# Altium schematic symbol library master-010106.SCHLIB: 123 symbols (part 2 of 3)
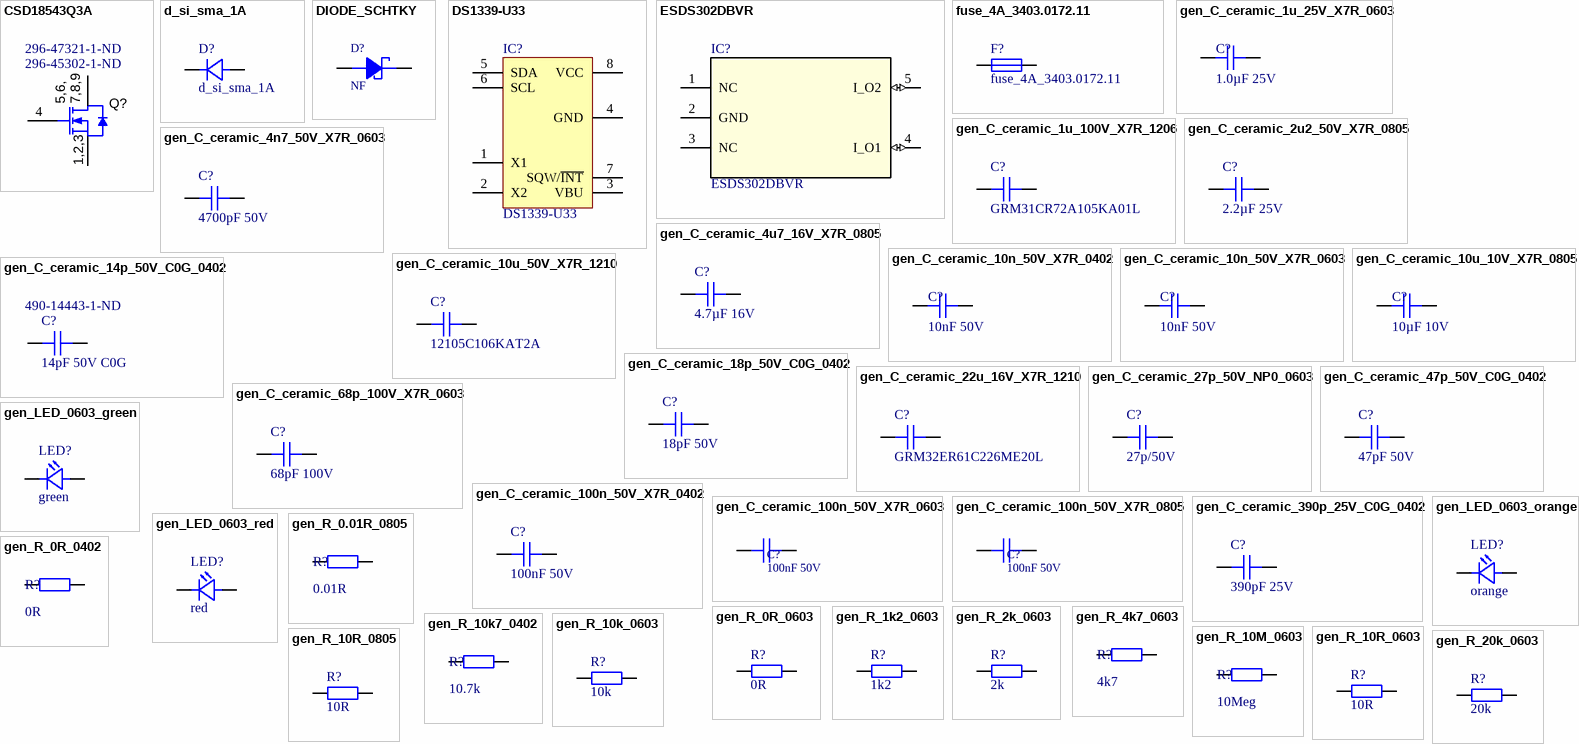
[diagram p4: symbols CSD18543Q3A to gen_R_20k_0603]

## CSD18543Q3A
designator Q?  Supplier Part Number 1: 296-45302-1-ND  Supplier Part Number 2: 296-47321-1-ND  (hidden comment: CSD18543Q3A)
60V, N ch NexFET MOSFET™, single SON3x3, 9.9mOhm; Manufacturer: Texas Instruments; Alternate Manufacturer: None; CompType: MOSFET; Value: 30V; U/M: EA; VdsMax_V: 60; Value1: 0.0081 ohm; Rdson45_Ohm: 0.0081; Value2: 1.7 nC; QgTyp_nC: 1.7; Vgs_V: 10; IdsMax_A: 156; SymbolVersion: 2008-07-09; PartNumber: CSD18543Q3A; PackageReference: SON 3.3x3.3mm; ChType: N; RoHS: Y; MountType: SMT; Published: 2008-06-19; Publisher: Texas Instruments; LatestRevisionDate: 2013-07-24; LatestRevisionNote: Added parts.; ComponentLink1Description: Datasheet link; ComponentLink1URL: http://www.ti.com/lit/ds/symlink/csd18543q3a.pdf; Supplier 1: Digi-Key; Supplier 2: Digi-Key
simulation model CSD17308Q3
footprint SONQ3A (NexFET MOSFET™, single SON3x3)
footprint SONQ3A_NV (NexFET MOSFET™, single SON3x3, No Via)
pins: 1 S, 2 S, 3 S, 4 G, 5 D, 6 D, 7 D, 8 D, 9 D
text: 5,6,; 7,8,9; 1,2,3

## d_si_sma_1A
designator D?
Standard Recovery Diode, 100 V, 1 A, Single, 1 V, 2 µs, 30 A; Part Name: GF1B; Manufacturer: ON Semiconductor; Breakdown Voltage: 100V; Continuous Forward Current: 1A; Automotive Qualified: False; Part Number: d_si_sma_1A; Operating Temperature: -65°C - +175°C; ComponentLink1Description: Datasheet; ComponentLink1URL: http://www.farnell.com/datasheets/2303965.pdf; Supplier 1: Farnell; Supplier Part Number 1: 1467477
footprint DIOM4326X24N (Molded Diode, 2-Leads, Body 4,30x2,60mm, IPC Medium Density, SMA, DO-214AC)
footprint DIOM4326X24L (Footprint not found)
footprint DIOM4326X24M
pins: 1 K, 2 A

## DIODE_SCHTKY
designator D?, comment NF
'''BAT41 Schottky diode, small signal''' / - If(avg) = 200mA, Vf(max) = 1V@200mA / - Vr(max) = 100V, Ir = 100nA@50V, 25deg / - SOD-523 package, RoHS compliant; DBDesc: do not populate, RoHS compliant; ID: 908; Preffered ID: 20995
footprint NF_SOD-523 (Footprint not found)
pins: 1 A, 2 C

## DS1339-U33
designator IC?
DBDesc: DS1339U-33+ RTC I2C w/alarm USOP-8, RoHS compliant; ID: 11376; Part Number: DS1339-U33
footprint USOP-8
pins: 1 X1, 2 X2, 3 VBU, 4 GND, 5 SDA, 6 SCL, 7 SQW/~{INT}, 8 VCC

## ESDS302DBVR
designator IC?
Imported; Manufacturer: Texas Instruments; PartNumber: ESDS302DBVR; RefDes: RefDes; TYPE: TYPE; Value: Value; Part Number: ESDS302DBVR
footprint DBV0005A_N
pins: 1 NC, 2 GND (power), 3 NC, 4 I_O1 (io), 5 I_O2 (io)

## fuse_4A_3403.0172.11
designator F?
Schurter SMD Fuse 4.0A UMT 3403.0172.11; Automotive Qualified: False; Part Number: fuse_4A_3403.0172.11; Manufacturer: Schurter; Operating Temperature: -55°C - +125°C; ComponentLink1Description: Catalog Page Digikey; ComponentLink1URL: http://dkc3.digikey.com/PDF/DE2011-DE/P2352.pdf; Supplier 1: Digikey; Supplier Part Number 1: 486-1253-ND; Supplier 2: Mouser; Supplier Part Number 2: 693-3403.0172.11
footprint Schurter_UMT_250 (Schurter UMT 250 Series Fuse)
pins: 1, 2
1 alternate drawing of the same symbol

## gen_C_ceramic_1u_25V_X7R_0603
designator C?, comment 1.0µF 25V
Ceramic, 1.0µF, ±10%, 25V, X7R, –55 to 125°C, 0603 (1608),RoHS, Automotive; Part Number: GCJ188R71E105KA01; Manufacturer: Murata; Case EIA: 0603; Case Metric: 1608; Capacitance: 1µF; Automotive Qualified: True; PnP Package: C_0603_10; PnP Value: 1.0µF/25V/X7R; Dielectric: X7R; Rated Voltage: 25V; Height - Seated (Max): 0.8mm; Mounting Type: SurfaceMount,MLCC; Operating Temperature: –55 to 125°C; Series: GCJ; Tolerance: ±10%; Manufacturer_Part_Number: GCJ188R71E105KA01; Supplier 1: Digi-Key; Supplier Part Number 1: 490-14409-1-ND
footprint 0603C
signal-integrity model Cap
simulation model CAPACITOR
pins: 1, 2

## gen_C_ceramic_1u_100V_X7R_1206
designator C?, comment GRM31CR72A105KA01L
Ceramic, 1 uF, +/- 10%, 100 V, -55 to 125 degC, 1206 (3216 Metric), RoHS, Tape and Reel; Manufacturer: Murata; Catalog Drawings: GRMSeries_1206_1.6; Featured Product: GA3SafetyRecognizedCapsandHi-CapMLCC; Online Catalog: GRMSeries; Temperature Coefficient: X7R; Product Training Modules: High-CapMultilayerCeramicCapacitors; Other Names: 490-3909-6; Voltage - Rated: 100V; Case EIA: 1206; Case Metric: 3216; PnP Package: C_1206_10; PnP Value: 1.0µF/100V/X7R; Capacitance: 1µF; Height - Seated (Max): -; Features: -; Applications: GeneralPurpose; Manufacturer URL: http://www.murata.com/; Standard Package: 1; Package Reference: 1206; Series: GCJ; Package / Case: 1206(3216Metric); Datasheet Version: Sep-11; Ratings: -; Category: Capacitors; Datasheet URL: https://datasheet.ciiva.com/29199/454987-da-01-en-vs-kondensator-1206-29199435.pdf; Operating Temperature: –55 to 125°C; Lead Spacing: -; Family: CeramicCapacitors; Tolerance: ±10%; Packaging: Digi-Reel; Mounting Type: SurfaceMount,MLCC; Package Description: 2-Pin Surface Mount Device, Body 3.2 x 1.6 mm; Lead Style: -; Thickness (Max): 0.071"(1.80mm); Size / Dimension: 0.126"Lx0.063"W(3.20mmx1.60mm); Dielectric: X7R; Rated Voltage: 100V; Manufacturer 1: Murata; Manufacturer Part Number 1: GRM31CR72A105KA01L
footprint CAPC3216X180X55ML20T25 (Chip Capacitor, 2-Leads, Body 3.4x1.8mm, IPC Low Density)
footprint CAPC3216X180X55NL20T25 (Chip Capacitor, 2-Leads, Body 3.4x1.8mm, IPC Medium Density)
footprint CAPC3216X180X55LL20T25 (Chip Capacitor, 2-Leads, Body 3.4x1.8mm, IPC High Density)
signal-integrity model Cap
simulation model CAPACITOR
pins: 1, 2

## gen_C_ceramic_2u2_50V_X7R_0805
designator C?, comment 2.2µF 25V
Ceramic, 2.2µF, ±10%, 25V, X7R, –55 to 125°C, 0805 (2012),RoHS, Automotive; Part Number: GCJ21BR71E225KA01; Manufacturer: Murata; Capacitance: 2u2; Case EIA: 0805; Case Metric: 2012; Automotive Qualified: True; PnP Package: C_0805_10; PnP Value: 2.2µF/25V/X7R; Rated Voltage: 25V; Dielectric: X7R; Height - Seated (Max): 1.25mm; Mounting Type: SurfaceMount,MLCC; Operating Temperature: –55 to 125°C; Series: GCJ; Tolerance: ±10%; Manufacturer_Part_Number: GCJ21BR71E225KA01
footprint CAPC2012X14N (Chip Capacitor, 2-Leads, Body 2,00x1,25mm, IPC Medium Density)
footprint CAPC2012X14L
footprint CAPC2012X14M
footprint 0805C
signal-integrity model Cap
simulation model CAPACITOR
pins: 1, 2

## gen_C_ceramic_4n7_50V_X7R_0603
designator C?, comment 4700pF 50V
Ceramic, 4700pF,±5%, 50V, C0G, 25 to 125°C, 0603 (2012); Part Number: GRT1885C1H472JA02; Capacitance: 4700p; Case EIA: 0603; Case Metric: 1608; PnP Package: C_0603_05; Automotive Qualified: True; Rated Voltage: 50V; Dielectric: C0G
footprint CAPC1608X08N (Chip Capacitor, 2-Leads, Body 1,60x0,80mm, IPC Medium Density)
footprint CAPC1608X08L
footprint CAPC1608X08M
footprint 0603C
signal-integrity model Cap
simulation model CAPACITOR
pins: 1, 2

## gen_C_ceramic_4u7_16V_X7R_0805
designator C?, comment 4.7µF 16V
Ceramic, 4.7µF, ±10%, 16V, X7R, –55 to 125°C, 0805 (2012),RoHS, Automotive; Part Number: GCJ21BR71C475KA01; Manufacturer: Murata; Capacitance: 4u7; Case EIA: 0805; Case Metric: 2012; AVT Set: x; Automotive Qualified: True; PnP Package: C_0805_10; PnP Value: 4.7µF/16V/X7R; Rated Voltage: 16V; Dielectric: X7R; Supplier 1: Digi-Key; Supplier Part Number 1: 490-10557-1-ND; Height - Seated (Max): 1.25mm; Mounting Type: SurfaceMount,MLCC; Operating Temperature: –55 to 125°C; Series: GCJ; Tolerance: ±10%; Manufacturer_Part_Number: GCJ21BR71C475KA01
footprint CAPC2012X14L
footprint CAPC2012X14M
footprint CAPC2012X14N (Chip Capacitor, 2-Leads, Body 2,00x1,25mm, IPC Medium Density)
footprint 0805C
signal-integrity model Cap
simulation model CAPACITOR
pins: 1, 2

## gen_C_ceramic_10n_50V_X7R_0402
designator C?, comment 10nF 50V
Ceramic, 10nF, ±10%, 50V, X7R, –55 to 125°C, 0402 (1005),RoHS, Automotive; Part Number: GRT155R71H104KE01; Automotive Qualified: True; Capacitance: 10n; Case EIA: 0402; Case Metric: 1005; PnP Package: C_0402_10; PnP Value: 10n/50V/X7R; Dielectric: X7R; Rated Voltage: 50V
footprint 0402C (Chip Capacitor, 2-Leads, Body 1.0x0.5mm, IPC Medium Density)
signal-integrity model Cap
simulation model CAPACITOR
pins: 1, 2

## gen_C_ceramic_10n_50V_X7R_0603
designator C?, comment 10nF 50V
Ceramic, 10nF, ±10%, 50V, X7R, –55 to 125°C, 0603 (1608),RoHS, Automotive; Part Number: GCJ188R71H102KA01; Manufacturer: Murata; Case EIA: 0603; Case Metric: 1608; Capacitance: 10n; Automotive Qualified: True; PnP Package: C_0603_10; PnP Value: 10nF/50V/X7R; Dielectric: X7R; Rated Voltage: 50V; Height - Seated (Max): 0.8mm; Mounting Type: SurfaceMount,MLCC; Operating Temperature: –55 to 125°C; Series: GCJ; Tolerance: ±10%; Manufacturer_Part_Number: GCJ188R71H102KA01; Supplier 1: Digi-Key; Supplier Part Number 1: 490-5768-1-ND
footprint 0603C
signal-integrity model Cap
simulation model CAPACITOR
pins: 1, 2

## gen_C_ceramic_10u_10V_X7R_0805
designator C?, comment 10µF 10V
Ceramic, 10µF, ±10%, 10V, X7R, –55 to 125°C, 0805 (2012),RoHS, Automotive; Part Number: GCJ21BR71A106KE01; Manufacturer: Murata; Case EIA: 0805; Case Metric: 2012; Automotive Qualified: True; PnP Package: C_0805_10; PnP Value: 10µF/10V/X7R; Capacitance: 10µF; Dielectric: X7R; Rated Voltage: 10V; Height - Seated (Max): 1.25mm; Mounting Type: SurfaceMount,MLCC; Operating Temperature: –55 to 125°C; Series: GCJ; Tolerance: ±10%; Manufacturer_Part_Number: GCJ21BR71A106KE01; Supplier 1: Digi-Key; Supplier Part Number 1: 490-12646-1-ND
footprint 0805C
footprint CAPC2012X14N (Chip Capacitor, 2-Leads, Body 2,00x1,25mm, IPC Medium Density)
signal-integrity model Cap
simulation model CAPACITOR
pins: 1, 2

## gen_C_ceramic_10u_50V_X7R_1210
designator C?, comment 12105C106KAT2A
Ceramic, 10uF, 50 V, -55 to 125 degC, 2-Pin SMD (1210), RoHS, Tape and Reel; Manufacturer: AVX; Manufacturer 1: Kyocera AVX; Dielectric: X7R; Tolerance: ±10%; Load Life: 1000h; Type: CommercialSurfaceMountChip; Voltage Rating: 50V; Temperature Coefficient / Code: +/-15%; Case EIA: 1210; Case Metric: 3225; PnP Package: C_1210_10; PnP Value: 10µF/25V/X7R; Rated Voltage: 25V; Maximum Operating Temperature: +125C; Mounting Technology: SurfaceMount; Case Code - in: 1210; Package Description: 2-Pin Surface Mount Device, Body 3.2 x 2.5 mm; Datasheet URL: http://www.farnell.com/datasheets/1818074.pdf; Case Code - mm: 3225; Package / Case: 1210(3225metric); Product: GeneralTypeMLCCs; Capacitance: 10uF; Product Category: MultilayerCeramicCapacitorsMLCC-SMD/SMT; Minimum Operating Temperature: -55C; Manufacturer URL: http://www.avx.com/; Operating Temperature Range: -55Cto+125C; Termination Style: SMD/SMT; Factory Pack Quantity: 1000; RoHS: Details; Brand: AVX; Datasheet Version: 03/2014; Package Reference: 1210; Packaging: Reel; Voltage Rating DC: 50V; Height - Seated (Max): 2.5mm; Mounting Type: SurfaceMount,MLCC; Operating Temperature: –55 to 125°C; Series: GCM; Manufacturer Part Number 1: 12105C106KAT2A
footprint CAPC3225X279X50LL20T25 (Chip Capacitor, 2-Leads, Body 3.40x2.70mm, IPC High Density)
footprint CAPC3225X279X50ML20T25 (Chip Capacitor, 2-Leads, Body 3.40x2.70mm, IPC Low Density)
footprint CAPC3225X279X50NL20T25 (Chip Capacitor, 2-Leads, Body 3.40x2.70mm, IPC Medium Density)
signal-integrity model Cap
simulation model CAPACITOR
pins: 1, 2

## gen_C_ceramic_14p_50V_C0G_0402
designator C?, comment 14pF 50V C0G  Supplier Part Number 1: 490-14443-1-ND
CAP CER 14PF 50V C0G/NP0 0402; Manufacturer: Murata; Manufacturer Part Number: GJM1555C1H140GB01D; Capacitance: 14p; Case EIA: 0402; Case Metric: 1005; Automotive Qualified: True; PnP Package: C_0402_10; PnP Value: 18pF/50V/C0G; Tolerance: ±5%; Rated Voltage: 50V; Dielectric: C0G; Height - Seated (Max): 0.5mm; Mounting Type: SurfaceMount,MLCC; Operating Temperature: 25 to 125°C; Supplier 1: Digi-Key; RoHS: No; Category: Ceramic Capacitors; Stock 1: 24524; Pricing 1: 1=0.24000, 10=0.16500, 100=0.08360, 500=0.05722, 1000=0.05063, 2500=0.04842, 5000=0.04402 (USD); Voltage Rating (DC): 50V; Length: 1mm; Width: 500um; Thickness: 500um; ComponentLink1URL: https://search.murata.co.jp/Ceramy/image/img/A01X/G101/ENG/GJM1555C1H140GB01-01.pdf?src-supplier=Digi-Key; ComponentLink1Description: https://search.murata.co.jp/Ceramy/image/img/A01X/G101/ENG/GJM1555C1H140GB01-01.pdf?src-supplier=Digi-Key; ComponentLink2URL: http://search.murata.co.jp/Ceramy/image/img/A01X/G101/ENG/GJM1555C1H140GB01-01.pdf?src-supplier=Digi-Key; ComponentLink2Description: http://search.murata.co.jp/Ceramy/image/img/A01X/G101/ENG/GJM1555C1H140GB01-01.pdf?src-supplier=Digi-Key
footprint 0402C (Chip Capacitor, 2-Leads, Body 1.0x0.5mm, IPC Medium Density)
signal-integrity model Cap
simulation model CAPACITOR
pins: 1, 2

## gen_C_ceramic_18p_50V_C0G_0402
designator C?, comment 18pF 50V
Ceramic, 18pF, ±5%, 50V, C0G, 25 to 125°C, 0402 (1005),RoHS, Automotive; Part Number: GCM1555C1H180JA16#; Manufacturer: Murata; Capacitance: 18p; Case EIA: 0402; Case Metric: 1005; Automotive Qualified: True; PnP Package: C_0402_10; PnP Value: 18pF/50V/X7R; Rated Voltage: 50V; Dielectric: C0G; Supplier 1: Digi-Key; Supplier Part Number 1: 490-12650-1-ND; Height - Seated (Max): 0.5mm; Mounting Type: SurfaceMount,MLCC; Operating Temperature: 25 to 125°C; Series: GCM; Tolerance: ±5%; Manufacturer_Part_Number: GCM1555C1H180JA16#
footprint 0402C (Chip Capacitor, 2-Leads, Body 1.0x0.5mm, IPC Medium Density)
signal-integrity model Cap
simulation model CAPACITOR
pins: 1, 2

## gen_C_ceramic_22u_16V_X7R_1210
designator C?, comment GRM32ER61C226ME20L
Ceramic, 22uF, 16 V, -55 to 125 degC, 2-Pin SMD (1210), RoHS, Tape and Reel; Manufacturer: AVX; Manufacturer 1: Kyocera AVX; Manufacturer Part Number 1: 12105C106KAT2A; Dielectric: X7R; Tolerance: ±10%; Capacitance: 10uF; Load Life: 1000h; Type: CommercialSurfaceMountChip; Voltage Rating: 50V; Temperature Coefficient / Code: +/-15%; Case EIA: 1210; Case Metric: 3225; PnP Package: C_1210_10; PnP Value: 22µF/16V/X7R; Rated Voltage: 16V; Maximum Operating Temperature: +125C; Mounting Technology: SurfaceMount; Case Code - in: 1210; Package Description: 2-Pin Surface Mount Device, Body 3.2 x 2.5 mm; Datasheet URL: http://www.farnell.com/datasheets/1818074.pdf; Case Code - mm: 3225; Package / Case: 1210(3225metric); Product: GeneralTypeMLCCs; Product Category: MultilayerCeramicCapacitorsMLCC-SMD/SMT; Minimum Operating Temperature: -55C; Manufacturer URL: http://www.avx.com/; Operating Temperature Range: -55Cto+125C; Termination Style: SMD/SMT; Factory Pack Quantity: 1000; RoHS: Details; Brand: AVX; Datasheet Version: 03/2014; Package Reference: 1210; Packaging: Reel; Voltage Rating DC: 50V; Height - Seated (Max): 2.5mm; Mounting Type: SurfaceMount,MLCC; Operating Temperature: –55 to 125°C; Series: GCM
footprint CAPC3225X279X50LL20T25 (Chip Capacitor, 2-Leads, Body 3.40x2.70mm, IPC High Density)
footprint CAPC3225X279X50ML20T25 (Chip Capacitor, 2-Leads, Body 3.40x2.70mm, IPC Low Density)
footprint CAPC3225X279X50NL20T25 (Chip Capacitor, 2-Leads, Body 3.40x2.70mm, IPC Medium Density)
signal-integrity model Cap
simulation model CAPACITOR
footprint 1210C (Footprint not found)
pins: 1, 2

## gen_C_ceramic_27p_50V_NP0_0603
designator C?, comment 27p/50V
MLCC; Part Number: gen_C_ceramic_27p_50V_NP0_0603; Capacitance: 27p; Rated Voltage: 50V; Dielectric: NP0; Case EIA: 0603; Case Metric: 1608; PnP Package: C_0603_05; Automotive Qualified: True; Supplier 1: Farnell; Supplier Part Number 1: 2219430; PnP Value: *
footprint 0603C
pins: 1, 2

## gen_C_ceramic_47p_50V_C0G_0402
designator C?, comment 47pF 50V
Ceramic, 47pF, ±5%, 50V, C0G, 25 to 125°C, 0402 (1005),RoHS, Automotive; Part Number: GCM1555C1H470JA16#; Manufacturer: Murata; Capacitance: 47; Case EIA: 0402; Case Metric: 1005; Automotive Qualified: True; PnP Package: C_0402_10; PnP Value: 47pF/50V/X7R; Rated Voltage: 50V; Dielectric: C0G; Supplier 1: Digi-Key; Supplier Part Number 1: 490-10670-1-ND; Height - Seated (Max): 0.5mm; Mounting Type: SurfaceMount,MLCC; Operating Temperature: -55 to 125°C; Series: GCM; Tolerance: ±5%; Manufacturer_Part_Number: GCM1555C1H470JA16#
footprint 0402C (Chip Capacitor, 2-Leads, Body 1.0x0.5mm, IPC Medium Density)
signal-integrity model Cap
simulation model CAPACITOR
pins: 1, 2

## gen_C_ceramic_68p_100V_X7R_0603
designator C?, comment 68pF 100V
Ceramic, 68pF, ±5%, 100V, X7R, 25 to 125°C, 0603 (1608),RoHS, Automotive; Part Number: GCM1885C2A680JA16; Manufacturer: Murata; Capacitance: 68p; Case EIA: 0603; Case Metric: 1608; PnP Package: C_0603_05; Automotive Qualified: True; PnP Value: 68pF/100V/X7R; Rated Voltage: 100V; Dielectric: X7R; Supplier 1: Digi-Key; Supplier Part Number 1: 490-4945-1-ND; Height - Seated (Max): 0.8mm; Mounting Type: SurfaceMount,MLCC; Operating Temperature: 25 to 125°C; Series: GCM; Tolerance: ±5%; Manufacturer_Part_Number: GCM1885C2A680JA16
footprint 0603C
footprint 0402C (Chip Capacitor, 2-Leads, Body 1.0x0.5mm, IPC Medium Density)
signal-integrity model Cap
simulation model CAPACITOR
pins: 1, 2

## gen_C_ceramic_100n_50V_X7R_0402
designator C?, comment 100nF 50V
Ceramic, 100nF, ±10%, 50V, X7R, –55 to 125°C, 0402 (1005),RoHS, Automotive; Part Number: GCM155R71H104KE02; Manufacturer: Murata; Capacitance: 100n; Case EIA: 0402; Case Metric: 1005; PnP Package: C_0402_10; PnP Value: 100nF/50V/X7R; PnP equipped: x; Automotive Qualified: True; Rated Voltage: 50V; Dielectric: X7R; Supplier 1: Digi-Key; Supplier Part Number 1: 490-10672-1-ND; Height - Seated (Max): 0.5mm; Mounting Type: SurfaceMount,MLCC; Operating Temperature: –55 to 125°C; Series: GCM; Tolerance: ±10%; Manufacturer_Part_Number: GCM155R71H104KE02
footprint 0402C (Chip Capacitor, 2-Leads, Body 1.0x0.5mm, IPC Medium Density)
signal-integrity model Cap
simulation model CAPACITOR
pins: 1, 2

## gen_C_ceramic_100n_50V_X7R_0603
designator C?, comment 100nF 50V
Ceramic, 100nF, ±10%, 50V, X7R, –55 to 125°C, 0603 (1608),RoHS, Automotive; Part Number: GCJ188R71H104KA12; Manufacturer: Murata; Capacitance: 100n; Case EIA: 0603; Case Metric: 1608; Automotive Qualified: True; PnP Package: C_0603_10; PnP Value: 100nF/50V/X7R; Dielectric: X7R; Rated Voltage: 50V; Height - Seated (Max): 0.8mm; Mounting Type: SurfaceMount,MLCC; Operating Temperature: –55 to 125°C; Series: GCJ; Tolerance: ±10%; Manufacturer_Part_Number: GCJ188R71H104KA12; Supplier 1: Digi-Key; Supplier Part Number 1: 490-5798-1-ND
footprint 0603C
signal-integrity model Cap
simulation model CAPACITOR
pins: 1, 2

## gen_C_ceramic_100n_50V_X7R_0805
designator C?, comment 100nF 50V
Ceramic, 100nF, ±20%, 50V, X7R, –55 to 125°C, 0805 (2012),RoHS, Automotive; Part Number: GCJ188R71H104KA12; Manufacturer: Murata; Capacitance: 100n; Case EIA: 0603; Case Metric: 1608; Automotive Qualified: True; PnP Package: C_0603_10; PnP Value: 100nF/50V/X7R; Tolerance: ±10%; Dielectric: X7R; Rated Voltage: 50V; Height - Seated (Max): 0.8mm; Mounting Type: SurfaceMount,MLCC; Operating Temperature: –55 to 125°C; Series: GCJ; Manufacturer_Part_Number: GCJ188R71H104KA12; Supplier 1: Digi-Key; Supplier Part Number 1: 490-5798-1-ND
signal-integrity model Cap
simulation model CAPACITOR
footprint 0805C
pins: 1, 2

## gen_C_ceramic_390p_25V_C0G_0402
designator C?, comment 390pF 25V
Ceramic, 390pF, ±5%, 25V, C0G, 25 to 125°C, 0402 (1005),RoHS, Automotive; Part Number: GCM1555C1H180JA16#; Manufacturer: Murata; Capacitance: 18p; Rated Voltage: 50V; Case EIA: 0402; Case Metric: 1005; Automotive Qualified: True; PnP Package: C_0402_10; PnP Value: 18pF/50V/X7R; Dielectric: C0G; Supplier 1: Digi-Key; Supplier Part Number 1: 490-12650-1-ND; Height - Seated (Max): 0.5mm; Mounting Type: SurfaceMount,MLCC; Operating Temperature: 25 to 125°C; Series: GCM; Tolerance: ±5%; Manufacturer_Part_Number: GCM1555C1H180JA16#
footprint 0402C (Chip Capacitor, 2-Leads, Body 1.0x0.5mm, IPC Medium Density)
signal-integrity model Cap
simulation model CAPACITOR
pins: 1, 2

## gen_LED_0603_green
designator LED?, comment green
LED; Part Number: gen_LED_0603_green; Breakdown Voltage: 5V; Continuous Forward Current: 20mA; Forward Voltage @ 20mA: 2.2V; PnP Package: LED_0603; Automotive Qualified: False; Color: green; Supplier 1: Farnell; Supplier Part Number 1: 2099223
footprint LEDC1608X07N
footprint LEDC1608X07L
footprint LEDC1608X07M
pins: 1 C, 2 A

## gen_LED_0603_orange
designator LED?, comment orange
LED; Part Number: gen_LED_0603_orange; Breakdown Voltage: 5V; Continuous Forward Current: 20mA; Forward Voltage @ 20mA: 2.2V; PnP Package: LED_0603; Automotive Qualified: False; Color: orange; Supplier 1: Farnell; Supplier Part Number 1: 2099222
footprint LEDC1608X07N
footprint LEDC1608X07L
footprint LEDC1608X07M
pins: 1 C, 2 A

## gen_LED_0603_red
designator LED?, comment red
LED; Part Number: gen_LED_0603_red; Breakdown Voltage: 5V; Continuous Forward Current: 20mA; Forward Voltage @ 20mA: 2V; PnP Package: LED_0603; Automotive Qualified: False; Color: red; Supplier 1: Farnell; Supplier Part Number 1: 2099221
footprint LEDC1608X07N
footprint LEDC1608X07L
footprint LEDC1608X07M
pins: 1 C, 2 A

## gen_R_0.01R_0805
designator R?, comment 0.01R
SMD Resistor 10m 0805; Part Number: gen_R_0.01R_0805; Case EIA: 0805; Case Metric: 2012; PnP Package: R_0603; Operating Temperature: -55°C - +155°C; PnP Value: 0.01R
footprint 0805R
signal-integrity model Res
simulation model RESISTOR
pins: 1, 2

## gen_R_0R_0402
designator R?, comment 0R
SMD Resistor 0R 0402; Part Number: gen_R_0R_0402; Case EIA: 0402; Case Metric: 1005; PnP Package: R_0402; Automotive Qualified: False; PnP Value: 0R; Operating Temperature: -55°C - +155°C
footprint 0603R
footprint 0402R
signal-integrity model Res
simulation model RESISTOR
pins: 1, 2

## gen_R_0R_0603
designator R?, comment 0R
SMD Resistor 0R 0603; Part Number: gen_R_0R_0603; Power: 0.1W; Case EIA: 0603; Case Metric: 1608; PnP Package: R_0603; Maximum Working Voltage: 75V; Automotive Qualified: False; Operating Temperature: -55°C - +155°C; Resistance: 0R; Series: Jumper; PnP Value: 0R; Supplier 1: Farnell; Supplier Part Number 1: 2073345
footprint RESC1608X05N (Chip Resistor, 2-Leads, Body 1,60x0,80mm, IPC Medium Density)
footprint RESC1608X05L (Footprint not found)
footprint RESC1608X05M (Footprint not found)
footprint 0603R
signal-integrity model Res
simulation model RESISTOR
pins: 1, 2
1 alternate drawing of the same symbol

## gen_R_1k2_0603
designator R?, comment 1k2
SMD Resistor 1k2 0603; Part Number: gen_R_1k2_0603; Tolerance: 1%; Power: 0.1W; Case EIA: 0603; Case Metric: 1608; Maximum Working Voltage: 75V; PnP Package: R_0603; Automotive Qualified: True; Operating Temperature: -55°C - +155°C; Resistance: 1k2; Series: E24; PnP Value: 1k2; Supplier 1: Farnell; Supplier Part Number 1: 2073370
footprint RESC1608X05N
footprint RESC1608X05L
footprint RESC1608X05M
footprint 0603R
pins: 1, 2
1 alternate drawing of the same symbol

## gen_R_2k_0603
designator R?, comment 2k
SMD Resistor 2k 0603; Part Number: gen_R_2k_0603; Tolerance: 1%; Power: 0.1W; Case EIA: 0603; Case Metric: 1608; Maximum Working Voltage: 75V; PnP Package: R_0603; Automotive Qualified: True; Operating Temperature: -55°C - +155°C; Resistance: 2k; Series: E24, E96; PnP Value: 2k; Supplier 1: Farnell; Supplier Part Number 1: 2059343
footprint RESC1608X05N
footprint RESC1608X05L
footprint RESC1608X05M
footprint 0603R
pins: 1, 2
1 alternate drawing of the same symbol

## gen_R_4k7_0603
designator R?, comment 4k7
SMD Resistor 4.7k 0603; Part Number: gen_R_4k7_0603; Case EIA: 0603; Case Metric: 1608; PnP Package: R_0603; Automotive Qualified: False; PnP Value: 4k7; Operating Temperature: -55°C - +155°C
footprint 0603R
signal-integrity model Res
simulation model RESISTOR
pins: 1, 2

## gen_R_10k7_0402
designator R?, comment 10.7k
SMD Resistor 10.7k 0402; Part Number: gen_R_10.7k_0402; Case EIA: 0402; Case Metric: 1005; PnP Package: R_0402; Automotive Qualified: False; PnP Value: 10.7k; Operating Temperature: -55°C - +155°C
footprint 0402R
signal-integrity model Res
simulation model RESISTOR
pins: 1, 2

## gen_R_10k_0603
designator R?, comment 10k
SMD Resistor 10k 0603; Part Number: gen_R_10k_0603; Tolerance: 1%; Power: 0.1W; Case EIA: 0603; Case Metric: 1608; Maximum Working Voltage: 75V; PnP Package: R_0603; Automotive Qualified: False; Operating Temperature: -55°C - +155°C; Resistance: 10k; Series: E24, E96; PnP Value: 10k; Supplier 1: Farnell; Supplier Part Number 1: 2073349
footprint RESC1608X05N (Chip Resistor, 2-Leads, Body 1,60x0,80mm, IPC Medium Density)
footprint RESC1608X05L (Footprint not found)
footprint RESC1608X05M (Footprint not found)
footprint 0603R
signal-integrity model Res
simulation model RESISTOR
pins: 1, 2
1 alternate drawing of the same symbol

## gen_R_10M_0603
designator R?, comment 10Meg
SMD Resistor 10Meg 0603; Part Number: gen_R_10Meg_0603; Case EIA: 0603; Case Metric: 1608; PnP Package: R_0603; Automotive Qualified: False; Operating Temperature: -55°C - +155°C; PnP Value: 10Meg
footprint 0603R
signal-integrity model Res
simulation model RESISTOR
pins: 1, 2

## gen_R_10R_0603
designator R?, comment 10R
SMD Resistor 10R 0603; Part Number: gen_R_10R_0603; Tolerance: 1%; Power: 0.1W; Case EIA: 0603; Case Metric: 1608; Maximum Working Voltage: 75V; PnP Package: R_0603; Automotive Qualified: False; Operating Temperature: -55°C - +155°C; Resistance: 10R; Series: E24, E96; PnP Value: 10R; Supplier 1: Farnell; Supplier Part Number 1: 2073361
footprint RESC1608X05N (Chip Resistor, 2-Leads, Body 1,60x0,80mm, IPC Medium Density)
footprint RESC1608X05L (Footprint not found)
footprint RESC1608X05M (Footprint not found)
footprint 0603R
signal-integrity model Res
simulation model RESISTOR
pins: 1, 2
1 alternate drawing of the same symbol

## gen_R_10R_0805
designator R?, comment 10R
SMD Resistor 10R 0805; Part Number: gen_R_10R_0603; Tolerance: 1%; Power: 0.1W; Case EIA: 0603; Case Metric: 1608; Maximum Working Voltage: 75V; PnP Package: R_0603; Automotive Qualified: False; Operating Temperature: -55°C - +155°C; Resistance: 10R; Series: E24, E96; PnP Value: 10R; Supplier 1: Farnell; Supplier Part Number 1: 2073361
footprint 0805R
signal-integrity model Res
simulation model RESISTOR
pins: 1, 2
1 alternate drawing of the same symbol

## gen_R_20k_0603
designator R?, comment 20k
SMD Resistor 20k 0603; Part Number: gen_R_20k_0603; Tolerance: 1%; Power: 0.1W; Case EIA: 0603; Case Metric: 1608; Maximum Working Voltage: 75V; PnP Package: R_0603; Automotive Qualified: True; Operating Temperature: -55°C - +155°C; Resistance: 20k; Series: E24, E96; PnP Value: 20k; Supplier 1: Farnell; Supplier Part Number 1: 2059432
footprint RESC1608X05N
footprint RESC1608X05L
footprint RESC1608X05M
footprint 0603R
pins: 1, 2
1 alternate drawing of the same symbol

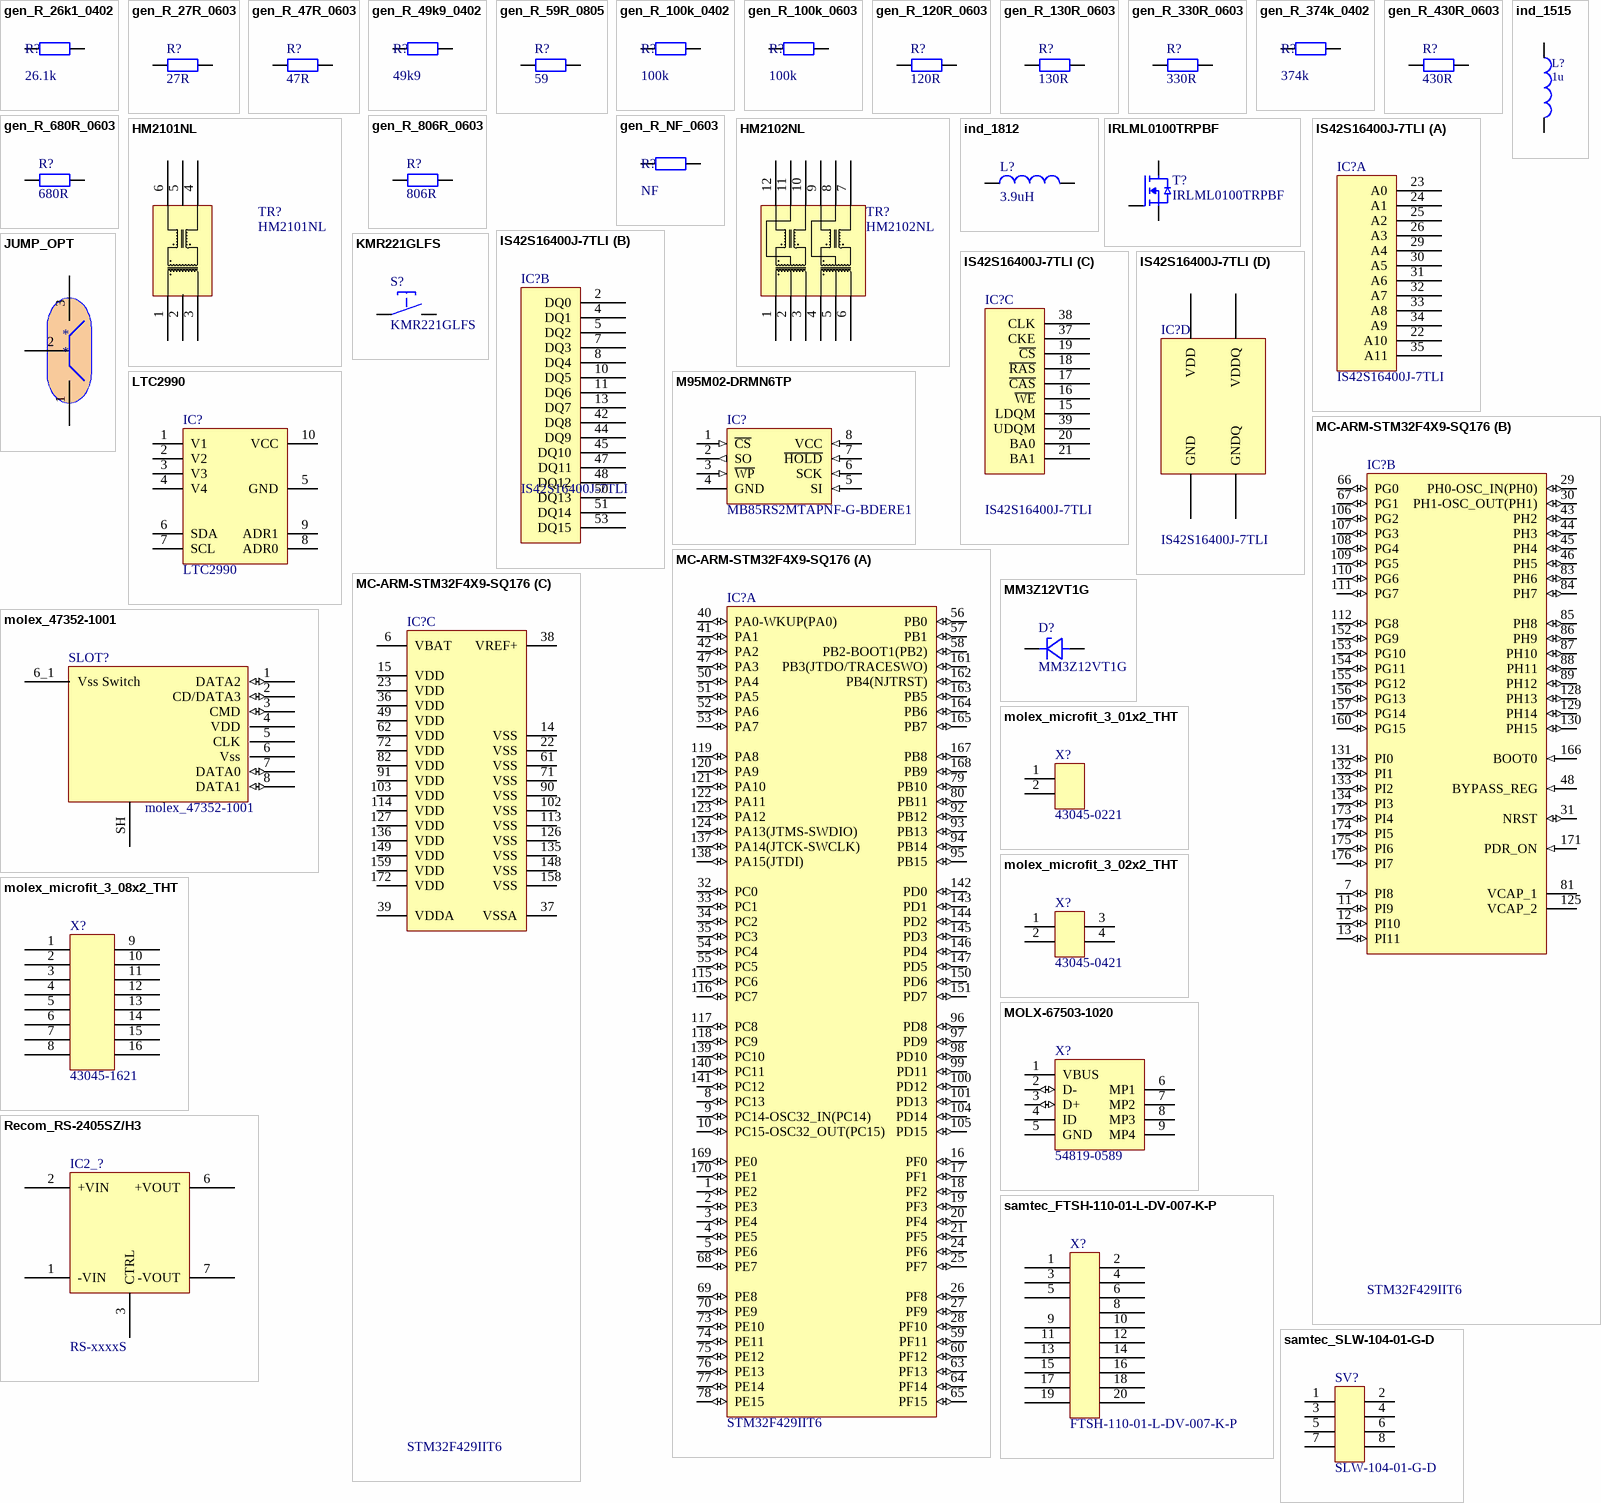
[diagram p2: symbols gen_R_26k1_0402 to samtec_SLW-104-01-G-D]

## gen_R_26k1_0402
designator R?, comment 26.1k
SMD Resistor 26.1k 0402; Part Number: gen_R_26.1k_0402; Case EIA: 0402; Case Metric: 1005; PnP Package: R_0402; Automotive Qualified: False; PnP Value: 26.1k; Operating Temperature: -55°C - +155°C
footprint 0402R
signal-integrity model Res
simulation model RESISTOR
pins: 1, 2

## gen_R_27R_0603
designator R?, comment 27R
SMD Resistor 27R 0603; Part Number: gen_R_27R_0603; Tolerance: 1%; Power: 0.1W; Case EIA: 0603; Case Metric: 1608; Maximum Working Voltage: 75V; PnP Package: R_0603; Automotive Qualified: False; Operating Temperature: -55°C - +155°C; Resistance: 27R; Series: E24; PnP Value: 27R; Supplier 1: Farnell; Supplier Part Number 1: 2059559
footprint RESC1608X05N (Chip Resistor, 2-Leads, Body 1,60x0,80mm, IPC Medium Density)
footprint RESC1608X05L (Footprint not found)
footprint RESC1608X05M (Footprint not found)
footprint 0603R
signal-integrity model Res
simulation model RESISTOR
pins: 1, 2
1 alternate drawing of the same symbol

## gen_R_47R_0603
designator R?, comment 47R
SMD Resistor 47R 0603; Part Number: gen_R_47R_0603; Tolerance: 1%; Power: 0.1W; Case EIA: 0603; Case Metric: 1608; Maximum Working Voltage: 75V; PnP Package: R_0603; Automotive Qualified: False; Operating Temperature: -55°C - +155°C; Resistance: 47R; Series: E24; PnP Value: 47R; Supplier 1: Farnell; Supplier Part Number 1: 2303030
footprint RESC1608X05N (Chip Resistor, 2-Leads, Body 1,60x0,80mm, IPC Medium Density)
footprint RESC1608X05L (Footprint not found)
footprint RESC1608X05M (Footprint not found)
footprint 0603R
signal-integrity model Res
simulation model RESISTOR
pins: 1, 2
1 alternate drawing of the same symbol

## gen_R_49k9_0402
designator R?, comment 49k9
SMD Resistor 49.9k 0402; Part Number: gen_R_49k9_0402; Case EIA: 0402; Case Metric: 1005; PnP Package: R_0402; Automotive Qualified: False; PnP Value: 49k9; Operating Temperature: -55°C - +155°C
footprint 0402R
signal-integrity model Res
simulation model RESISTOR
pins: 1, 2

## gen_R_59R_0805
designator R?, comment 59
SMD Resistor 59R 0805; Part Number: gen_R_62R_0603; Tolerance: 1%; Power: 0.1W; Case EIA: 0805; Case Metric: 2012; Maximum Working Voltage: 75V; PnP Package: R_0603; Automotive Qualified: False; Operating Temperature: -55°C - +155°C; Resistance: 59; Series: E24; PnP Value: 59; Supplier 1: Farnell; Supplier Part Number 1: 2073943
footprint 0805R
signal-integrity model Res
simulation model RESISTOR
pins: 1, 2
1 alternate drawing of the same symbol

## gen_R_100k_0402
designator R?, comment 100k
SMD Resistor 100k 0402; Part Number: gen_R_100k_0402; Case EIA: 0402; Case Metric: 1005; PnP Package: R_0402; Automotive Qualified: False; PnP Value: 100k; Operating Temperature: -55°C - +155°C
footprint 0402R
signal-integrity model Res
simulation model RESISTOR
pins: 1, 2

## gen_R_100k_0603
designator R?, comment 100k
SMD Resistor 100k 0603; Part Number: gen_R_100k_0603; Case EIA: 0603; Case Metric: 1608; PnP Package: R_0603; Automotive Qualified: False; Operating Temperature: -55°C - +155°C; PnP Value: 100k
footprint 0603R
signal-integrity model Res
simulation model RESISTOR
pins: 1, 2

## gen_R_120R_0603
designator R?, comment 120R
SMD Resistor 120R 0603; Part Number: gen_R_120R_0603; Tolerance: 1%; Power: 0.1W; Case EIA: 0805; Case Metric: 2012; Maximum Working Voltage: 75V; PnP Package: R_0603; Automotive Qualified: False; Operating Temperature: -55°C - +155°C; Resistance: 120R; Series: E24; PnP Value: 120R; Supplier 1: Farnell; Supplier Part Number 1: 2073369
footprint RESC1608X05N (Chip Resistor, 2-Leads, Body 1,60x0,80mm, IPC Medium Density)
footprint RESC1608X05L (Footprint not found)
footprint RESC1608X05M (Footprint not found)
footprint 0805R
signal-integrity model Res
simulation model RESISTOR
pins: 1, 2
1 alternate drawing of the same symbol

## gen_R_130R_0603
designator R?, comment 130R
SMD Resistor 130R 0603; Part Number: gen_R_130R_0603; Tolerance: 1%; Power: 0.1W; Case EIA: 0603; Case Metric: 1608; Maximum Working Voltage: 75V; PnP Package: R_0603; Automotive Qualified: False; Operating Temperature: -55°C - +155°C; Resistance: 130R; Series: E24, E96; PnP Value: 130R; Supplier 1: Farnell; Supplier Part Number 1: 2379959
footprint RESC1608X05N (Chip Resistor, 2-Leads, Body 1,60x0,80mm, IPC Medium Density)
footprint RESC1608X05L (Footprint not found)
footprint RESC1608X05M (Footprint not found)
footprint 0603R
signal-integrity model Res
simulation model RESISTOR
pins: 1, 2
1 alternate drawing of the same symbol

## gen_R_330R_0603
designator R?, comment 330R
SMD Resistor 330R 0603; Part Number: gen_R_330R_0603; Tolerance: 1%; Power: 0.1W; Case EIA: 0805; Case Metric: 2012; Maximum Working Voltage: 75V; PnP Package: R_0603; Automotive Qualified: False; Operating Temperature: -55°C - +155°C; Resistance: 330R; Series: E24; PnP Value: 330R; Supplier 1: Farnell; Supplier Part Number 1: 2692155
footprint RESC1608X05N (Chip Resistor, 2-Leads, Body 1,60x0,80mm, IPC Medium Density)
footprint RESC1608X05L (Footprint not found)
footprint RESC1608X05M (Footprint not found)
footprint 0805R
signal-integrity model Res
simulation model RESISTOR
pins: 1, 2
1 alternate drawing of the same symbol

## gen_R_374k_0402
designator R?, comment 374k
SMD Resistor 374k 0402; Part Number: gen_R_374k_0402; Case EIA: 0402; Case Metric: 1005; PnP Package: R_0402; Automotive Qualified: False; PnP Value: 374k; Operating Temperature: -55°C - +155°C
footprint 0402R
signal-integrity model Res
simulation model RESISTOR
pins: 1, 2

## gen_R_430R_0603
designator R?, comment 430R
SMD Resistor 430R 0603; Part Number: gen_R_430R_0603; Tolerance: 1%; Power: 0.1W; Case EIA: 0603; Case Metric: 1608; Maximum Working Voltage: 75V; PnP Package: R_0603; Automotive Qualified: False; Operating Temperature: -55°C - +155°C; Resistance: 430R; Series: E24; PnP Value: 430R; Supplier 1: Farnell; Supplier Part Number 1: 2074259
footprint RESC1608X05N (Chip Resistor, 2-Leads, Body 1,60x0,80mm, IPC Medium Density)
footprint RESC1608X05L (Footprint not found)
footprint RESC1608X05M (Footprint not found)
footprint 0603R
signal-integrity model Res
simulation model RESISTOR
pins: 1, 2
1 alternate drawing of the same symbol

## gen_R_680R_0603
designator R?, comment 680R
SMD Resistor 680R 0603; Part Number: gen_R_680R_0603; Tolerance: 1%; Power: 0.1W; Case EIA: 0603; Case Metric: 1608; Maximum Working Voltage: 75V; PnP Package: R_0603; Automotive Qualified: False; Operating Temperature: -55°C - +155°C; Resistance: 680R; Series: E24; PnP Value: 680R; Supplier 1: Farnell; Supplier Part Number 1: 2797303
footprint RESC1608X05N (Chip Resistor, 2-Leads, Body 1,60x0,80mm, IPC Medium Density)
footprint RESC1608X05L (Footprint not found)
footprint RESC1608X05M (Footprint not found)
footprint 0603R
signal-integrity model Res
simulation model RESISTOR
pins: 1, 2
1 alternate drawing of the same symbol

## gen_R_806R_0603
designator R?, comment 806R
SMD Resistor 806R 0603; Part Number: gen_R_806R_0603; Tolerance: 1%; Power: 0.1W; Case EIA: 0603; Case Metric: 1608; Maximum Working Voltage: 75V; PnP Package: R_0603; Automotive Qualified: True; Operating Temperature: -55°C - +155°C; Resistance: 806R; Series: E96; PnP Value: 806R; Supplier 1: Farnell; Supplier Part Number 1: 2059324
footprint RESC1608X05N
footprint RESC1608X05L
footprint RESC1608X05M
footprint 0603R
pins: 1, 2
1 alternate drawing of the same symbol

## gen_R_NF_0603
designator R?, comment NF
SMD Resistor NF 0603; Part Number: gen_R_NF_0603; Case EIA: 0603; Case Metric: 1608; PnP Package: R_0603; Automotive Qualified: False; Operating Temperature: -55°C - +155°C; PnP Value: NF
footprint 0603R
signal-integrity model Res
simulation model RESISTOR
pins: 1, 2

## HM2101NL
designator TR?
Pulse HM2101NL BMS Transformer; Automotive Qualified: True; Part Number: HM2101NL; Manufacturer: Pulse; Operating Temperature: -40°C - +125°C; ComponentLink1Description: Datasheet; ComponentLink1URL: https://www.mouser.com/ds/2/336/HM2102NL-1218600.pdf; Supplier 1: Mouser; Supplier Part Number 1: 673-HM2102NL; Supplier 2: Digikey; Supplier Part Number 2: 1840-1033-1-ND
footprint HM2101NL (Footprint not found)
pins: 1, 2, 3, 4, 5, 6

## HM2102NL
designator TR?
Pulse HM2102NL BMS Transformer; Automotive Qualified: True; Part Number: HM2102NL; Manufacturer: Pulse; Operating Temperature: -40°C - +125°C; ComponentLink1Description: Datasheet; ComponentLink1URL: https://www.mouser.com/ds/2/336/HM2102NL-1218600.pdf; Supplier 1: Mouser; Supplier Part Number 1: 673-HM2102NL; Supplier 2: Digikey; Supplier Part Number 2: 1840-1034-1-ND
footprint HM2102NL
pins: 1, 2, 3, 4, 5, 6, 7, 8, 9, 10, 11, 12

## ind_1515
designator L?, comment 1u
1u 3.8A 25mR 20% IFSC-1515 inductor, RoHS compliant; DBDesc: Wurth 74404042010, 1u 3.2A 27mR 30% inductor, RoHS compliant; ID: 25863; Part Number: IFSC-1515; Supplier 1: Digi-Key; Supplier Part Number 1: 732-5502-1-ND
footprint WE-LQS
signal-integrity model Inductor
simulation model INDUCTOR
pins: 1, 2

## ind_1812
designator L?, comment value 3.9uH  (hidden comment: FIXED IND 3.9UH 1.32A 140MOHM SM)
3.9µH Unshielded Wirewound Inductor 1.32A 140mOhm Max 1812 (4532 Metric); PartNumber: RLS-397; Code_IEC: 1005; Published: 8-Jun-2000; LatestRevisionDate: 29-May-2009; LatestRevisionNote: IPC-7351 Footprint Added.; PackageReference: 4532; Publisher: Altium Limited; PackageDescription: Chip Inductor; Code_JEITA: 4532; Part Number: INDC-4532
footprint INDC4532 (Chip Inductor, Body 4.5x3.2mm, IPC High Density)
simulation model INDUCTOR (Inductor)
signal-integrity model Inductor
pins: 1, 2

## IRLML0100TRPBF
designator T?
MOSFET-Transistor, n-Kanal, 1.6 A, 100 V, 0.178 ohm, 10 V, 2.5 V; Part Name: NMOS; Manufacturer: Infineon; Maximum Drain-Source Voltage: 100V; Maximum Continous Drain Current (25°C): 1.6A; R_DS(on): 190m; Total Gate Charge: 2.5nC; Automotive Qualified: False; Part Number: IRLML0100TRPBF; Operating Temperature: -55°C - +150°C; ComponentLink1Description: Datasheet URL; ComponentLink1URL: http://www.farnell.com/datasheets/491501.pdf; Supplier 1: Farnell; Supplier Part Number 1: 1783928
footprint SOT95P237X110-3N (SOT23, 3-Leads, Body 2,92x2,37mm, Pitch 0,95mm, IPC Medium Density)
pins: D, G, S

## IS42S16400J-7TLI
designator IC?
SDRAM, 4M x 16 Bit; Manufacturer: INTEGRATED SILICON SOLUTION (ISSI); PnP Package: TSOP II; Automotive Qualified: True; Part Number: IS42S16400J-7TLI; Part Name: IS42S16400J-7TLI; Operating Temperature: -40 / o / C to +85 / o / -40°C - +85°C; ComponentLink1Description: Datasheet; ComponentLink1URL: http://www.farnell.com/datasheets/1674895.pdf; Supplier 1: Farnell; Supplier Part Number 1: 2253831
footprint TSOP80P1180X120-54N (TSOP, 54-Leads, Body 22,22x10,16mm, Pitch 0,80mm, IPC Medium Density)
part A pins: 22 A10, 23 A0, 24 A1, 25 A2, 26 A3, 29 A4, 30 A5, 31 A6, 32 A7, 33 A8, 34 A9, 35 A11
part B pins: 2 DQ0, 4 DQ1, 5 DQ2, 7 DQ3, 8 DQ4, 10 DQ5, 11 DQ6, 13 DQ7, 42 DQ8, 44 DQ9, 45 DQ10, 47 DQ11, 48 DQ12, 50 DQ13, 51 DQ14, 53 DQ15
part C pins: 15 LDQM, 16 ~{WE}, 17 ~{CAS}, 18 ~{RAS}, 19 ~{CS}, 20 BA0, 21 BA1, 37 CKE, 38 CLK, 39 UDQM
part D pins: 1 VDD (power), 3 VDDQ (power), 6 GNDQ (power), 9 VDDQ (power), 12 GNDQ (power), 14 VDD (power), 27 VDD (power), 28 GND (power), 41 GND (power), 43 VDDQ (power), 46 GNDQ (power), 49 VDDQ (power), 52 GNDQ (power), 54 GND (power)

## JUMP_OPT
designator *
footprint RESC1608X05N_1_2 (Chip Resistor, 2-Leads, Body 1,60x0,80mm, IPC Medium Density)
footprint RESC1608X05N_2_3 (Chip Resistor, 2-Leads, Body 1,60x0,80mm, IPC Medium Density)
pins: 1, 2, 3

## KMR221GLFS
designator S?
Microminiature Tactile Switch; Manufacturer: CK Components; Automotive Qualified: False; Part Number: KMR221GLFS; Operating Temperature: -40°C - +85°C; ComponentLink1Description: Datasheet; ComponentLink1URL: http://www.farnell.com/datasheets/1685525.pdf; Supplier 1: Farnell; Supplier Part Number 1: 1201424; Supplier 2: Digikey; Supplier Part Number 2: 401-1426-1-ND; Supplier 3: Mouser; Supplier Part Number 3: 611-KMR211G-LFS
footprint KMR2_Series (Microminiature Tact Switch for SMT)
pins: 1, 2, 3, 4

## LTC2990
designator IC?
ID: 19355; DBDesc: Linear LTC2990IMS quad I2C voltage, current and temperature monitor, -40°C to +85°C, 10-pin MSOP, RoHS compliant; Part Number: LTC2990
footprint MSOP-10 (Footprint not found)
pins: 1 V1, 2 V2, 3 V3, 4 V4, 5 GND, 6 SDA, 7 SCL, 8 ADR0, 9 ADR1, 10 VCC

## M95M02-DRMN6TP
designator IC?, comment MB85RS2MTAPNF-G-BDERE1
FRAM (Ferroelectric RAM) Memory IC 2Mb (256K x 8) SPI 40MHz 8-SOP; Manufacturer: Fujitsu Electronics America, Inc.; PnP Package: SOIC-8; Automotive Qualified: False; Part Number: MB85RS2MTAPNF-G-BDERE1; Part Name: MB85RS2MTAPNF-G-BDERE1; Operating Temperature: -40°C - +85°C; ComponentLink1Description: Datasheet; ComponentLink1URL: http://www.st.com/resource/en/datasheet/m95m02-dr.pdf; Supplier 1: Digikey; Supplier Part Number 1: 865-1286-1-ND
footprint SOIC127P600X175-8N (SOIC, 8-Leads, Body 4,90x3,90mm, Pitch 1,27mm, IPC Medium Density)
footprint SOIC127P600X175-8L
footprint SOIC127P600X175-8M
pins: 1 ~{CS} (in), 2 SO (out), 3 ~{WP} (in), 4 GND (power), 5 SI (in), 6 SCK (in), 7 ~{HOLD} (in), 8 VCC (in)